# Altium schematic symbol library DTSM3xNB.SchLib: 1 symbol
Pins are listed as number, name and electrical type; pins without a type are passive.

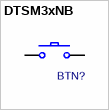
[diagram p0: symbol DTSM3xNB]

## DTSM3xNB
designator BTN?  (value not drawn)
DTSM3xNB; Value: DTSM3xNB
footprint DTSM3xNB
pins: 1, 2